# Altium schematic symbol library 0OHMR.SchLib: 1 symbol
Pins are listed as number, name and electrical type; pins without a type are passive.

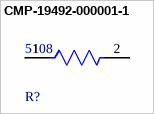
[diagram p0: symbol CMP-19492-000001-1]

## CMP-19492-000001-1
designator R?, comment 5108
RES SMD 0 OHM JUMPER 1/2W 1206; Max Power Dissipation: 500mW; Resistance: 0mR; Packaging: Tape and Reel; Number of Terminations: 2; Case Code (Metric): 3216; RoHS Compliant: Yes; Resistor Type: Thick Film; Lead Free: Lead Free; Case Code (Imperial): 1206; Length: 0.12inch; Width: 0.067inch; Case/Package: 1206; Height: 0.028inch
footprint FP-5108-MFG
pins: 1, 2